# Altium schematic symbol library EM_Power.SchLib: 26 symbols
Pins are listed as number, name and electrical type; pins without a type are passive.

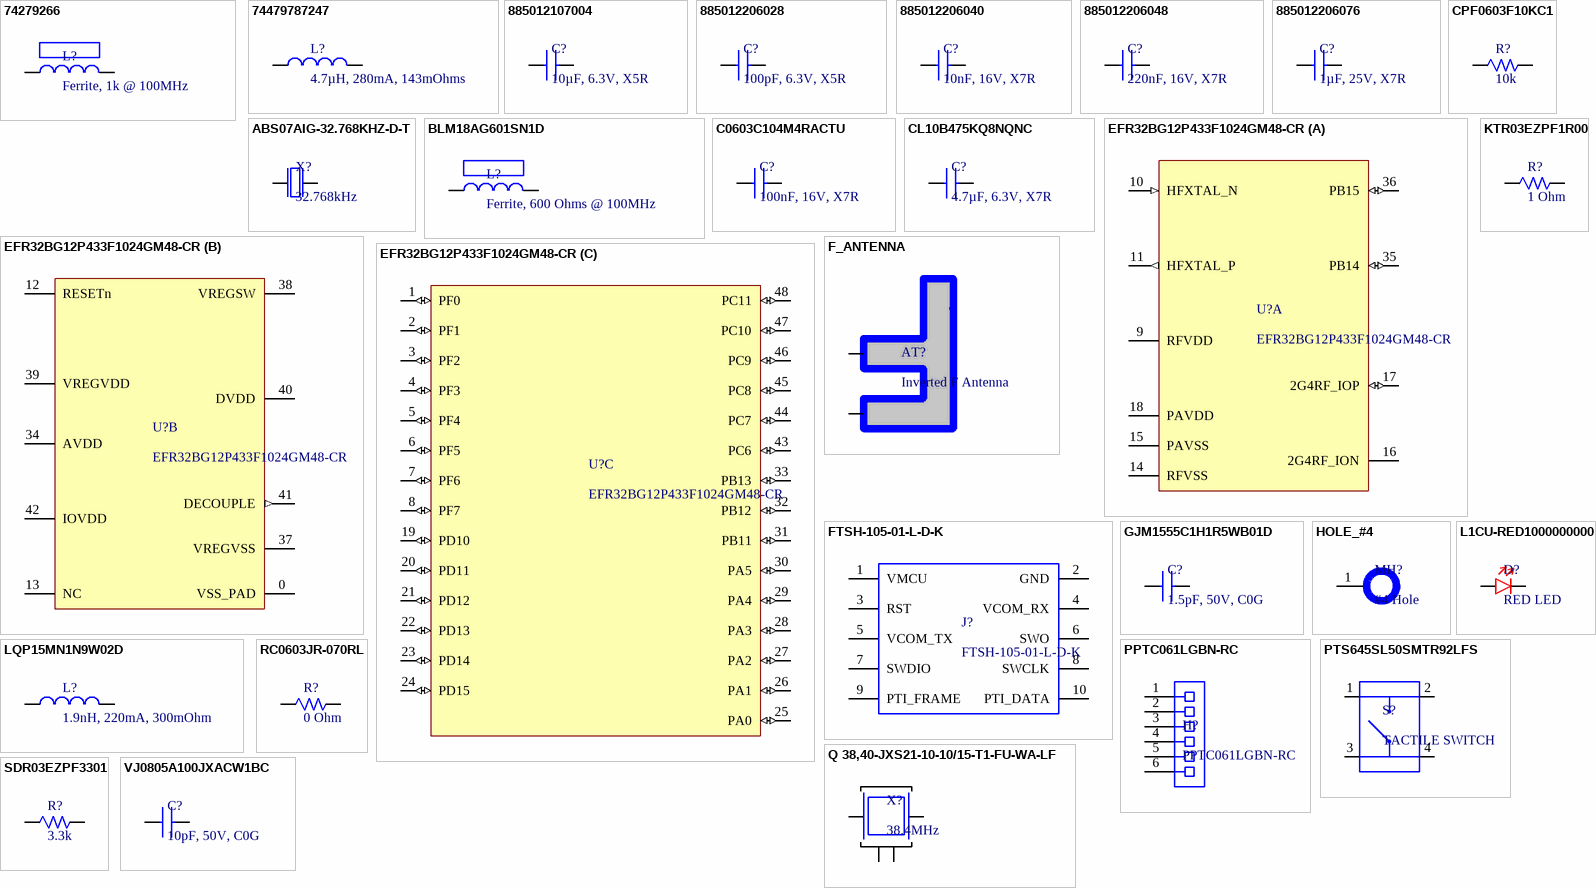
[diagram p0: symbols 74279266 to VJ0805A100JXACW1BC]

## 74279266
designator L?, comment Ferrite, 1k @ 100MHz
Ferrite Bead, 0603 [1608 Metric], 1 kohm, 200 mA, WE-CBF Series, 0.6 ohm, ± 25%; Manufacturer: Wurth Electronics; Manufacturer Part Number: 74279266; Impedance: 1kR; Max DC Current: 200mA; DC Resistance (DCR): 600mR; Inductance: 1.8nH; Shielding: Unshielded; Supplier 1: Digi-Key; RoHS: Yes; Category: Ferrite Beads and Chips; Stock 1: 123904; Pricing 1: 1=0.17000, 50=0.16800, 100=0.15500, 500=0.14800, 1000=0.14100, 2000=0.13400 (USD); Case/Package: SMD/SMT; Case Code (Metric): 1608; Case Code (Imperial): 0603; Core Material: Ferrite; Min Operating Temperature: -55°C; Max Operating Temperature: 125°C; Tolerance: 25%; Packaging: Tape and Reel; Termination: SMD/SMT; Test Frequency: 100MHz; Current Rating: 200mA; Length: 1.6mm; Height: 0.8mm; Width: 0.8mm; Depth: 0.8mm; Lead Free: Lead Free; REACH SVHC: Unknown; ComponentLink1URL: https://datasheet.ciiva.com/14634/0900766b801ef1d0-14634816.pdf?src-supplier=Allied+Electronics; ComponentLink1Description: https://datasheet.ciiva.com/14634/0900766b801ef1d0-14634816.pdf?src-supplier=Allied+Electronics; ComponentLink2URL: https://datasheet.ciiva.com/23763/74279266-23763009.pdf?src-supplier=Newark; ComponentLink2Description: https://datasheet.ciiva.com/23763/74279266-23763009.pdf?src-supplier=Newark; ComponentLink3URL: https://datasheet.ciiva.com/11799/0900766b801ef1d0-11799352.pdf?src-supplier=RSComponents; ComponentLink3Description: https://datasheet.ciiva.com/11799/0900766b801ef1d0-11799352.pdf?src-supplier=RSComponents; ComponentLink4URL: https://datasheet.ciiva.com/14971/74279266-14971192.pdf?src-supplier=Digi-Key; ComponentLink4Description: https://datasheet.ciiva.com/14971/74279266-14971192.pdf?src-supplier=Digi-Key; ComponentLink5URL: https://datasheet.ciiva.com/12395/74279266-221135-12395453.pdf?src-supplier=Mouser; ComponentLink5Description: https://datasheet.ciiva.com/12395/74279266-221135-12395453.pdf?src-supplier=Mouser; ComponentLink6URL: https://datasheet.ciiva.com/1466/1705901-1466509.pdf?src-supplier=Element14; ComponentLink6Description: https://datasheet.ciiva.com/1466/1705901-1466509.pdf?src-supplier=Element14; ComponentLink7URL: https://datasheet.ciiva.com/22711/1705901-22711422.pdf?src-supplier=Element14; ComponentLink7Description: https://datasheet.ciiva.com/22711/1705901-22711422.pdf?src-supplier=Element14; ComponentLink8URL: https://datasheet.ciiva.com/48698/001087059-da-01-ml-we-cbf-smd-ferrit-74279266-de-en-48698427.pdf?src-supplier=Conrad; ComponentLink8Description: https://datasheet.ciiva.com/48698/001087059-da-01-ml-we-cbf-smd-ferrit-74279266-de-en-48698427.pdf?src-supplier=Conrad; Supplier Part Number 1: 732-4484-1-ND
footprint Ferrite_Bead_1801x1 (FERRITE BEAD 1 KOHM 0603 1LN)
pins: 1, 2

## 74479787247
designator L?, comment 4.7µH, 280mA, 143mOhms
4.7uH, 1.25 A, 1008 [2520 Metric] WURTH ELEKTRONIK         74479787247             Surface Mount High Frequency Inductor, WE-PMI Series,; Manufacturer: Wurth Electronics; Core Material: Ferrite; Inductance Tolerance: 20%; Self Resonant Frequency: 40MHz; Q Factor: 20; Shielding: Shielded; Max DC Current: 1.25A; DC Resistance (DCR): 110mR; Test Frequency: 1MHz; Supplier 1: Digi-Key; Manufacturer Part Number: 74479787247; RoHS: Yes; Category: Fixed Inductors; Stock 1: 2270; Pricing 1: 1=1.10000, 10=1.07000, 50=0.96600, 100=0.93200, 500=0.86300, 1000=0.79400 (USD); Case/Package: SMD/SMT; Weight: 0.001129oz; Case Code (Metric): 2516; Case Code (Imperial): 1008; Min Operating Temperature: -40°C; Max Operating Temperature: 125°C; Packaging: Cut Tape; Inductance: 4.7uH; Termination: SMD/SMT; Package Quantity: 3000; Length: 2.5mm; Height: 1mm; Width: 2mm; REACH SVHC: Unknown; ComponentLink1URL: https://datasheet.ciiva.com/7354/1599851-7354771.pdf?src-supplier=Newark; ComponentLink1Description: https://datasheet.ciiva.com/7354/1599851-7354771.pdf?src-supplier=Newark; ComponentLink2URL: https://datasheet.ciiva.com/24213/74479787247-253805-24213913.pdf?src-supplier=Mouser; ComponentLink2Description: https://datasheet.ciiva.com/24213/74479787247-253805-24213913.pdf?src-supplier=Mouser; ComponentLink3URL: https://datasheet.ciiva.com/7754/1599851-7754726.pdf?src-supplier=Element14; ComponentLink3Description: https://datasheet.ciiva.com/7754/1599851-7754726.pdf?src-supplier=Element14; Supplier Part Number 1: 732-14079-1-ND
footprint IND_2228x1 (Shielded Multilayer Inductor 143mOhm Max 1008 (2520 Metric))
pins: 1, 2

## 885012107004
designator C?, comment 10µF, 6.3V, X5R
CAP CER 10UF 6.3V X5R 0805; Manufacturer: Wurth Electronics; Manufacturer Part Number: 885012107004; Tolerance: 20%; Supplier 1: Digi-Key; RoHS: Yes; Category: Ceramic Capacitors; Stock 1: 10674; Pricing 1: 1=0.19000, 10=0.17100, 100=0.15310, 500=0.13542, 1000=0.12500 (USD); Mount: Surface Mount; Case/Package: 0805; Case Code (Metric): 2012; Case Code (Imperial): 0805; Min Operating Temperature: -55°C; Max Operating Temperature: 85°C; Packaging: Tape and Reel; Capacitance: 10uF; Voltage Rating: 6.3V; Length: 0.079inch; Width: 0.049inch; Thickness: 0.053inch; ComponentLink1URL: https://katalog.we-online.de/pbs/datasheet/885012107004.pdf?src-supplier=Digi-Key; ComponentLink1Description: https://katalog.we-online.de/pbs/datasheet/885012107004.pdf?src-supplier=Digi-Key; Supplier Part Number 1: 732-7615-1-ND
footprint CAP_X5R_10UF (CAP CER 10UF 6.3V X5R 0805)
pins: 1, 2

## 885012206028
designator C?, comment 100pF, 6.3V, X5R
100 pF, 16 V, 0603 [1608 Metrické], ± 10%, X7R; Manufacturer: Wurth Electronics; Manufacturer Part Number: 885012206028; Voltage Rating: 16V; Supplier 1: Digi-Key; RoHS: Yes; Category: Ceramic Capacitors; Stock 1: 1513; Pricing 1: 1=0.10000, 10=0.02100, 100=0.01920, 500=0.01698 (USD); Mount: Surface Mount; Case/Package: 0603; Case Code (Imperial): 0603; Case Code (Metric): 1608; Min Operating Temperature: -55°C; Max Operating Temperature: 125°C; Tolerance: 10%; Packaging: Tape and Reel; Capacitance: 100pF; Length: 0.063inch; Width: 0.031inch; Thickness: 0.034inch; ComponentLink1URL: http://www.farnell.com/datasheets/2546812.pdf?src-supplier=Farnell; ComponentLink1Description: http://www.farnell.com/datasheets/2546812.pdf?src-supplier=Farnell; ComponentLink2URL: http://katalog.we-online.de/pbs/datasheet/885012206028.pdf?src-supplier=Digi-Key; ComponentLink2Description: http://katalog.we-online.de/pbs/datasheet/885012206028.pdf?src-supplier=Digi-Key; ComponentLink3URL: https://katalog.we-online.de/pbs/datasheet/885012206028.pdf?src-supplier=Digi-Key; ComponentLink3Description: https://katalog.we-online.de/pbs/datasheet/885012206028.pdf?src-supplier=Digi-Key; Supplier Part Number 1: 732-7947-1-ND
footprint CAP_X7R_100PF (CAP CER 100PF 16V X7R 0603)
pins: 1, 2

## 885012206040
designator C?, comment 10nF, 16V, X7R
CAP CER 10nF 16V X7R 0603; Manufacturer: Yageo; Manufacturer Part Number: CC0402MRX7R7BB103; Tolerance: 20%; RoHS: Yes; Category: Ceramic Capacitors; Stock 1: 33657; Pricing 1: 1=0.10000, 10=0.01800, 50=0.00960, 100=0.00780, 500=0.00558, 1000=0.00439, 2500=0.00399, 5000=0.00367 (USD); Mount: Surface Mount; Case/Package: 0402; Number of Pins: 2; Weight: 2.3E-05oz; Case Code (Metric): 1005; Case Code (Imperial): 0402; Min Operating Temperature: -55°C; Max Operating Temperature: 125°C; Packaging: Tape and Reel; Voltage Rating (DC): 16V; Capacitance: 10nF; Voltage Rating: 16V; Dielectric: X7R; Termination: SMD/SMT; Resistor Type: Ceramic; Length: 0.039inch; Width: 0.02inch; Thickness: 0.022inch; Depth: 0.5mm; REACH SVHC: No SVHC; Lead Free: Lead Free; Halogen Free: Halogen Free; ComponentLink1URL: https://datasheet.ciiva.com/13264/upy-gphc-x7r-6-3v-to-50v-8-12304-13264234.pdf?src-supplier=Mouser; ComponentLink1Description: https://datasheet.ciiva.com/13264/upy-gphc-x7r-6-3v-to-50v-8-12304-13264234.pdf?src-supplier=Mouser; Supplier 1: Digi-Key; Supplier Part Number 1: 732-7959-1-ND
footprint CAP_X7R_100PF (CAP CER 100PF 16V X7R 0603)
pins: 1, 2

## 885012206048
designator C?, comment 220nF, 16V, X7R
220nF/0.22UF, 16V, X7R, 10%, 0603, CERAMIC CAPACITOR ; Product Range:CC Series; Capacitance:0.22 F; Capacitance Tolerance: 10%; Dielectric Characteristic:X7R; Voltage Rating:16V; Ceramic Capacitor Case:0603 ; Packaging:Cut Tape;RoHS Compliant: Yes; Manufacturer: Yageo; Manufacturer Part Number: CC0805KRX7R7BB224; Insulation Resistance: 100GR; RoHS: Yes; Category: Ceramic Capacitors; Stock 1: 3851; Pricing 1: 1=0.19000, 10=0.13300, 50=0.07560, 100=0.06260, 500=0.04392, 1000=0.03636 (USD); Mount: Surface Mount; Case/Package: 0805; Number of Pins: 2; Dielectric Material: Ceramic; Case Code (Imperial): 0805; Case Code (Metric): 2012; Material: Ceramic; Min Operating Temperature: -55°C; Max Operating Temperature: 125°C; Capacitance: 220nF; Tolerance: 10%; Dielectric: X7R; Packaging: Tape and Reel; Voltage: 16V; Voltage Rating: 16V; Termination: SMD/SMT; Length: 2mm; Height: 0.85mm; Depth: 1.25mm; Width: 0.049inch; Thickness: 0.037inch; Radiation Hardening: No; REACH SVHC: Unknown; Lead Free: Lead Free; Halogen Free: Halogen Free; ComponentLink1URL: https://datasheet.ciiva.com/8034/1489800-8034021.pdf?src-supplier=Element14; ComponentLink1Description: https://datasheet.ciiva.com/8034/1489800-8034021.pdf?src-supplier=Element14; ComponentLink2URL: https://datasheet.ciiva.com/8034/1489800-8034022.pdf?src-supplier=Element14; ComponentLink2Description: https://datasheet.ciiva.com/8034/1489800-8034022.pdf?src-supplier=Element14; ComponentLink3URL: https://datasheet.ciiva.com/15189/getdatasheetpartid-315919-15189222.pdf?src-supplier=Verical; ComponentLink3Description: https://datasheet.ciiva.com/15189/getdatasheetpartid-315919-15189222.pdf?src-supplier=Verical; ComponentLink4URL: https://datasheet.ciiva.com/16624/upy-gphc-x7r-6-3v-to-50v-8-16624663.pdf?src-supplier=Avnet+Europe; ComponentLink4Description: https://datasheet.ciiva.com/16624/upy-gphc-x7r-6-3v-to-50v-8-16624663.pdf?src-supplier=Avnet+Europe; ComponentLink5URL: https://datasheet.ciiva.com/7978/1489800-7978206.pdf?src-supplier=Element14; ComponentLink5Description: https://datasheet.ciiva.com/7978/1489800-7978206.pdf?src-supplier=Element14; Supplier 1: Digi-Key; Supplier Part Number 1: 732-7967-1-ND
footprint CAP_X7R_100PF (CAP CER 100PF 16V X7R 0603)
pins: 1, 2

## 885012206076
designator C?, comment 1µF, 25V, X7R
CAP CER 1UF 25V X7R 0603; Manufacturer: Yageo; Manufacturer Part Number: CC1206MKX7R8BB105; Tolerance: 20%; RoHS: Yes; Category: Ceramic Capacitors; Stock 1: 18295; Pricing 1: 1=0.26000, 10=0.17700, 50=0.10640, 100=0.08980, 500=0.06146, 1000=0.05437 (USD); Mount: Surface Mount; Case/Package: 1206; Min Operating Temperature: -55°C; Max Operating Temperature: 125°C; Packaging: Tape and Reel; Capacitance: 1uF; Dielectric: X7R; Voltage Rating: 25V; Voltage Rating (DC): 25V; Length: 0.126inch; Width: 0.063inch; Thickness: 0.049inch; Depth: 1.6mm; Lead Free: Lead Free; Halogen Free: Halogen Free; ComponentLink1URL: https://datasheet.ciiva.com/13207/upy-gphc-x7r-6-3v-to-50v-8-12304-13207429.pdf?src-supplier=Mouser; ComponentLink1Description: https://datasheet.ciiva.com/13207/upy-gphc-x7r-6-3v-to-50v-8-12304-13207429.pdf?src-supplier=Mouser; Supplier 1: Digi-Key; Supplier Part Number 1: 732-7994-1-ND
footprint CAP_X7R_100PF (CAP CER 100PF 16V X7R 0603)
pins: 1, 2

## ABS07AIG-32.768KHZ-D-T
designator X?, comment 32.768kHz
Crystals 32.768kHz AECQ200 12.5pF -40C +85C; Manufacturer: Abracon; Manufacturer Part Number: ABS07AIG-32.768KHZ-D-T; ESR (Equivalent Series Resistance): 70kR; Frequency Tolerance: 20ppm; Supplier 1: Digi-Key; RoHS: Yes; Category: Crystals; Stock 1: 7575; Pricing 1: 1=1.05000, 10=0.92700, 50=0.86680, 100=0.76610, 500=0.72576, 1000=0.60480 (USD); Mount: Surface Mount; Case/Package: SMD/SMT; Min Operating Temperature: -40°C; Max Operating Temperature: 85°C; Packaging: Tape and Reel; Frequency: 32.768kHz; Load Capacitance: 12.5pF; Length: 0.126inch; Height: 0.035inch; Width: 0.059inch; Ratings: AEC-Q200; ComponentLink1URL: http://www.mouser.com/ds/2/3/ABS07AIG-783567.pdf?src-supplier=Mouser; ComponentLink1Description: http://www.mouser.com/ds/2/3/ABS07AIG-783567.pdf?src-supplier=Mouser; ComponentLink2URL: http://www.abracon.com/AIGcrystals/ABS07AIG.pdf?src-supplier=Digi-Key; ComponentLink2Description: http://www.abracon.com/AIGcrystals/ABS07AIG.pdf?src-supplier=Digi-Key; ComponentLink3URL: https://abracon.com/Support/flyer/AutoGrade-AIG-Crystals.pdf?src-supplier=Digi-Key; ComponentLink3Description: https://abracon.com/Support/flyer/AutoGrade-AIG-Crystals.pdf?src-supplier=Digi-Key; Supplier Part Number 1: 535-13356-1-ND
footprint XTAL320X150X90
pins: 1, 2

## BLM18AG601SN1D
designator L?, comment Ferrite, 600 Ohms @ 100MHz
BLM18AG601SN1D - Ferrite Bead, 0603 / 1608, 600 ohm, 500 mA, Série BLM18A, 0.38 ohm, ± 25%; Manufacturer: Murata; Material: Steel,Ferrite; Impedance: 600R; Current Rating: 500mA; DC Resistance (DCR): 380mR; Shielding: Unshielded; Number of Circuits: 1; Supplier 1: Digi-Key; Manufacturer Part Number: BLM18AG601SN1D; RoHS: Yes; Category: Inductors; Stock 1: 294956; Pricing 1: 1=0.10000, 10=0.07200, 25=0.06560, 50=0.05900, 100=0.04320, 250=0.03144, 500=0.02882, 1000=0.02489 (USD); Case/Package: 0603; Number of Pins: 2; Weight: 7.1E-05oz; Core Material: Ferrite; Case Code (Metric): 1608; Case Code (Imperial): 0603; Min Operating Temperature: -55°C; Max Operating Temperature: 125°C; Tolerance: 25%; Package Quantity: 1; Packaging: Tape and Reel; Termination: SMD/SMT; Max DC Current: 500mA; Max Current Rating: 500mA; Number of Lines: 1; Test Frequency: 100MHz; DC Current: 500mA; Frequency: 100MHz; Length: 1.6mm; Height: 0.8mm; Width: 0.8mm; Depth: 0.8mm; Radiation Hardening: No; REACH SVHC: No SVHC; Military Standard: Not; Lead Free: Lead Free; ComponentLink1URL: https://datasheet.ciiva.com/19460/1844766-19460213.pdf?src-supplier=Jameco; ComponentLink1Description: https://datasheet.ciiva.com/19460/1844766-19460213.pdf?src-supplier=Jameco; ComponentLink2URL: https://datasheet.ciiva.com/29347/442309-da-01-en-chip-drossel-0603-600r-500ma-1-6x0-8mm-29347900.pdf?src-supplier=Conrad; ComponentLink2Description: https://datasheet.ciiva.com/29347/442309-da-01-en-chip-drossel-0603-600r-500ma-1-6x0-8mm-29347900.pdf?src-supplier=Conrad; ComponentLink3URL: https://datasheet.ciiva.com/41449/001172228-da-01-en-drossel-0603-600r-1-6x0-8mm-4000st-41449517.pdf?src-supplier=Conrad; ComponentLink3Description: https://datasheet.ciiva.com/41449/001172228-da-01-en-drossel-0603-600r-1-6x0-8mm-4000st-41449517.pdf?src-supplier=Conrad; ComponentLink4URL: https://datasheet.ciiva.com/1012/l0110s0100blm18a-1012017.pdf?src-supplier=Digi-Key; ComponentLink4Description: https://datasheet.ciiva.com/1012/l0110s0100blm18a-1012017.pdf?src-supplier=Digi-Key; ComponentLink5URL: https://datasheet.ciiva.com/1012/l0110s0100blm18a-1012018.pdf?src-supplier=Digi-Key; ComponentLink5Description: https://datasheet.ciiva.com/1012/l0110s0100blm18a-1012018.pdf?src-supplier=Digi-Key; ComponentLink6URL: https://datasheet.ciiva.com/1012/l0110s0100blm18a-1012019.pdf?src-supplier=Digi-Key; ComponentLink6Description: https://datasheet.ciiva.com/1012/l0110s0100blm18a-1012019.pdf?src-supplier=Digi-Key; ComponentLink7URL: https://datasheet.ciiva.com/1466/1756147-1466933.pdf?src-supplier=Element14; ComponentLink7Description: https://datasheet.ciiva.com/1466/1756147-1466933.pdf?src-supplier=Element14; ComponentLink8URL: https://datasheet.ciiva.com/1466/1756147-1466934.pdf?src-supplier=Element14; ComponentLink8Description: https://datasheet.ciiva.com/1466/1756147-1466934.pdf?src-supplier=Element14; ComponentLink9URL: https://datasheet.ciiva.com/16210/l0110s0100blm18a-16210006.pdf?src-supplier=Future+Electronics; ComponentLink9Description: https://datasheet.ciiva.com/16210/l0110s0100blm18a-16210006.pdf?src-supplier=Future+Electronics; ComponentLink10URL: https://datasheet.ciiva.com/3081/l0110s0100blm18a-3081613.pdf?src-supplier=Avnet; ComponentLink10Description: https://datasheet.ciiva.com/3081/l0110s0100blm18a-3081613.pdf?src-supplier=Avnet; Supplier Part Number 1: 490-1014-1-ND
footprint Ferrite_Bead_0603 (FERRITE BEAD 600 OHM 0603 1LN)
pins: 1, 2

## C0603C104M4RACTU
designator C?, comment 100nF, 16V, X7R
CAP 100NF 16V 0603; Manufacturer: Murata; Manufacturer Part Number: LLL215R71C104MA11L; Tolerance: 20%; RoHS: Yes; Category: Ceramic Capacitors; Stock 1: 4067; Pricing 1: 1=0.35000, 10=0.24500, 50=0.17160, 100=0.14700, 500=0.11026, 1000=0.09310 (USD); Mount: Surface Mount; Case/Package: 0508; Case Code (Imperial): 0508; Case Code (Metric): 1220; Min Operating Temperature: -55°C; Max Operating Temperature: 125°C; Dielectric: X7R; Capacitance: 100nF; Voltage Rating (DC): 16V; Packaging: Tape and Reel; Voltage Rating: 16V; Package Quantity: 1; Termination: SMD/SMT; Voltage: 16V; Length: 1.25mm; Height: 0.5mm; Depth: 2mm; Width: 2mm; Thickness: 0.02inch; Radiation Hardening: No; Lead Free: Lead Free; ComponentLink1URL: https://datasheet.ciiva.com/17455/product-17455569.pdf?src-supplier=Avnet+Europe; ComponentLink1Description: https://datasheet.ciiva.com/17455/product-17455569.pdf?src-supplier=Avnet+Europe; ComponentLink2URL: https://datasheet.ciiva.com/11786/0900766b807a1cab-11786990.pdf?src-supplier=RSComponents; ComponentLink2Description: https://datasheet.ciiva.com/11786/0900766b807a1cab-11786990.pdf?src-supplier=RSComponents; ComponentLink3URL: https://datasheet.ciiva.com/139/partnumbering-e-01-139020.pdf?src-supplier=Digi-Key; ComponentLink3Description: https://datasheet.ciiva.com/139/partnumbering-e-01-139020.pdf?src-supplier=Digi-Key; ComponentLink4URL: https://datasheet.ciiva.com/139/partnumbering-e-01-139021.pdf?src-supplier=Digi-Key; ComponentLink4Description: https://datasheet.ciiva.com/139/partnumbering-e-01-139021.pdf?src-supplier=Digi-Key; ComponentLink5URL: https://datasheet.ciiva.com/139/partnumbering-e-01-139022.pdf?src-supplier=Digi-Key; ComponentLink5Description: https://datasheet.ciiva.com/139/partnumbering-e-01-139022.pdf?src-supplier=Digi-Key; Supplier 1: Digi-Key; Supplier Part Number 1: 399-1099-1-ND
footprint CAP_X7R_100NF (CAP CER 0.1UF 16V X7R 0603)
pins: 1, 2

## CL10B475KQ8NQNC
designator C?, comment 4.7µF, 6.3V, X7R
4.7uF, 6.3 V, 0603 [1608 Metric], 10%, X7R, CL Series Ceramic Capacitor,; Manufacturer: Samsung; Manufacturer Part Number: CL10B475KQ8NQNC; Supplier 1: Digi-Key; RoHS: Yes; Category: Ceramic Capacitors; Stock 1: 1537367; Pricing 1: 1=0.17000, 10=0.11800, 50=0.06720, 100=0.05560, 500=0.03898, 1000=0.03227 (USD); Mount: Surface Mount; Case/Package: 0603; Case Code (Metric): 1608; Case Code (Imperial): 0603; Contact Plating: Tin; Min Operating Temperature: -55°C; Max Operating Temperature: 125°C; Capacitance: 4.7uF; Tolerance: 10%; Dielectric: X7R; Package Quantity: 1; Packaging: Tape and Reel; Voltage Rating: 6.3V; Termination: Wraparound; Length: 1.6mm; Height: 0.8mm; Width: 0.031inch; Thickness: 0.035inch; Depth: 0.8mm; Lead Free: Lead Free; ComponentLink1URL: https://datasheet.ciiva.com/25733/cl10b475kq8nqnc-25733762.pdf?src-supplier=Digi-Key; ComponentLink1Description: https://datasheet.ciiva.com/25733/cl10b475kq8nqnc-25733762.pdf?src-supplier=Digi-Key; Supplier Part Number 1: 1276-2087-1-ND
footprint CAP_X7R_4.7uF (CAP CER 4.7UF 6.3V X7R 0603)
pins: 1, 2

## CPF0603F10KC1
designator R?, comment 10k
10K Ohm 1% 0.063W(1/16W)  Res Thick Film 0603 100ppm/? SMD Automotive Paper T/R; Manufacturer: Vishay Dale; Manufacturer Part Number: CRCW040210K0FKTD; Resistance: 10kR; Power Rating: 63mW; Temperature Coefficient: 100ppm/°C; Voltage Rating: 50V; RoHS: Yes; Category: Chip SMD Resistors; Stock 1: 10758; Pricing 1: 1=0.12000, 10=0.10900, 100=0.04200, 1000=0.01848, 2500=0.01596, 5000=0.01428 (USD); Mount: Surface Mount; Case/Package: 0402; Number of Pins: 2; Weight: 2.3E-05oz; Contact Plating: Tin,Lead; Case Code (Metric): 1005; Case Code (Imperial): 0402; Min Operating Temperature: -55°C; Max Operating Temperature: 155°C; Tolerance: 1%; Number of Terminations: 2; Max Power Dissipation: 63mW; Features: Automotive AEC-Q200; Packaging: Tape and Reel; Voltage Rating (DC): 50V; Package Quantity: 10000; Resistor Type: Thick Film; Length: 1mm; Height: 0.016inch; Depth: 0.5mm; Width: 0.02inch; Radiation Hardening: No; Lead Free: Contains Lead; Military Standard: Not; REACH SVHC: Unknown; ComponentLink1URL: https://datasheet.ciiva.com/15160/getdatasheetpartid-104182-15160013.pdf?src-supplier=Verical; ComponentLink1Description: https://datasheet.ciiva.com/15160/getdatasheetpartid-104182-15160013.pdf?src-supplier=Verical; ComponentLink2URL: https://datasheet.ciiva.com/2563/dcrcw-2563018.pdf?src-supplier=Digi-Key; ComponentLink2Description: https://datasheet.ciiva.com/2563/dcrcw-2563018.pdf?src-supplier=Digi-Key; Supplier 1: Digi-Key; Supplier Part Number 1: A102203CT-ND
footprint RES_0603_10k (RES SMD 10K OHM 1% 1/16W 0603)
pins: 1, 2

## EFR32BG12P433F1024GM48-CR
designator U?
Blue Gecko EFR32BG13; Manufacturer: Silicon Labs; Supplier 1: Digi-Key; Manufacturer Part Number: EFR32BG12P433F1024GM48-CR; RoHS: No; Stock 1: 4670; Pricing 1: 1=11.65000, 25=9.59720, 100=8.68300, 1000=6.39800 (USD); Supplier Part Number 1: 336-6197-1-ND
footprint QFN50P700X700X90_HS-49N (QFN, 48-Leads, Body 7.00x7.00mm, Pitch 0.50mm, Thermal Pad 4.70x4.70mm, IPC Medium Density)
part A pins: 9 RFVDD (power) "Radio power supply", 10 HFXTAL_N (in) "High Frequency Crystal input pin.", 11 HFXTAL_P (out) "High Frequency Crystal output pin.", 14 RFVSS (power) "Radio Ground", 15 PAVSS (power) ""Power Amplifier (PA) voltage regulator / VSS"", 16 2G4RF_ION ""2.4 GHz Differential RF input/output, / negative path. This pin should be externally / grounded."", 17 2G4RF_IOP (io) ""2.4 GHz Differential RF input/output, / positive path."", 18 PAVDD (power) ""Power Amplifier (PA) voltage regulator / VDD input"", 35 PB14 (io) "GPIO", 36 PB15 (io) "GPIO"
part B pins: 0 VSS_PAD (power) "Ground", 12 RESETn ""Reset input, active low. This pin is internally pulled up to AVDD. To apply an external reset source to this pin, it is required to only drive this pin low during reset, and let the internal pull-up ensure / that reset is released."", 13 NC (power) "No Connect.", 34 AVDD (power) "Analog power supply.", 37 VREGVSS (power) "Voltage regulator VSS", 38 VREGSW (power) "DCDC regulator switching node", 39 VREGVDD (power) "Voltage regulator VDD input", 40 DVDD (power) "Digital power supply.", 41 DECOUPLE (out) ""Decouple output for on-chip voltage / regulator. An external decoupling capacitor / is required at this pin. This pin / should not be used to power any external / circuits."", 42 IOVDD (power) "Digital IO power supply."
part C pins: 1 PF0 (io) "GPIO (5V)", 2 PF1 (io) "GPIO (5V)", 3 PF2 (io) "GPIO (5V)", 4 PF3 (io) "GPIO (5V)", 5 PF4 (io) "GPIO (5V)", 6 PF5 (io) "GPIO (5V)", 7 PF6 (io) "GPIO (5V)", 8 PF7 (io) "GPIO (5V)", 19 PD10 (io) "GPIO (5V)", 20 PD11 (io) "GPIO (5V)", 21 PD12 (io) "GPIO (5V)", 22 PD13 (io) "GPIO", 23 PD14 (io) "GPIO", 24 PD15 (io) "GPIO", 25 PA0 (io) "GPIO", 26 PA1 (io) "GPIO", 27 PA2 (io) "GPIO", 28 PA3 (io) "GPIO", 29 PA4 (io) "GPIO", 30 PA5 (io) "GPIO (5V)", 31 PB11 (io) "GPIO", 32 PB12 (io) "GPIO", 33 PB13 (io) "GPIO", 43 PC6 (io) "GPIO (5V)", 44 PC7 (io) "GPIO (5V)", 45 PC8 (io) "GPIO (5V)", 46 PC9 (io) "GPIO (5V)", 47 PC10 (io) "GPIO (5V)", 48 PC11 (io) "GPIO (5V)"

## F_ANTENNA
designator AT?, comment Inverted F Antenna  (net tie, no BOM)
footprint F-Antenna
pins: 1 GND, 2 FEED

## FTSH-105-01-L-D-K
designator J?
10-pin Mini Simplicity Connector, 1.27 mm, 10 Contacts, Header, FTSH Series, Through Hole, 2 Rows - Board-To-Board Connector, 1.27 mm, 10 Contacts, Header, FTSH Series, Through Hole, 2 Rows; Manufacturer: Samtec; Number of Contacts: 10; Gender: Male; Connector Type: Male Pin; Pitch: 1.27mm; Row Spacing: 0.05inch; Supplier 1: Digi-Key; Manufacturer Part Number: FTSH-105-01-L-D-K; RoHS: Yes; Category: Headers and Wire Housings; Stock 1: 2511; Pricing 1: 1=2.73000, 10=2.61600, 100=2.18000, 500=1.85300, 1000=1.58050, 5000=1.41700 (USD); Mount: Through Hole; Contact Plating: Gold; Housing Material: Polymer; Housing Color: Black; Contact Material: Bronze; Color: Black; Min Operating Temperature: -55°C; Max Operating Temperature: 125°C; Termination: Solder; Number of Rows: 2; Packaging: Rail/Tube; Number of Positions: 10; Orientation: Straight; Package Quantity: 1; Length: 6.35mm; Contact Mating Length: 0.12inch; Depth: 3.43mm; Radiation Hardening: No; ComponentLink1URL: https://datasheet.ciiva.com/739/ftsh-1xx-xx-xxx-d-xx-mkt-739003.pdf?src-supplier=Digi-Key; ComponentLink1Description: https://datasheet.ciiva.com/739/ftsh-1xx-xx-xxx-d-xx-mkt-739003.pdf?src-supplier=Digi-Key; Supplier Part Number 1: SAM8798-ND
footprint SAMTEC_FTSH-105-01-L-D-K
pins: 1 VMCU "Target Advanced Energy Monitor Voltage Net", 2 GND "Target Ground", 3 RST "Target Reset (Active Low)", 4 VCOM_RX "Target Pass-through UART/Virtual COM Port Receive", 5 VCOM_TX "Target Pass-through UART/Virtual COM Port Transmit", 6 SWO "Target Serial Wire Output", 7 SWDIO "Target Serial Wire Data Input/Output", 8 SWCLK "Target Serial Wire Clock", 9 PTI_FRAME "Target Packet Trace Interface Frame Signal", 10 PTI_DATA "Target Packet Trace Interface Data Signal"

## GJM1555C1H1R5WB01D
designator C?, comment 1.5pF, 50V, C0G
Cap Ceramic 1.5pF 50V C0G 0.05pF SMD 0402 125C Paper T/R; Manufacturer: Murata; Manufacturer Part Number: GJM1555C1H1R5WB01D; Supplier 1: Digi-Key; RoHS: Yes; Category: Ceramic Capacitors; Stock 1: 83250; Pricing 1: 1=0.24000, 10=0.16200, 50=0.10800, 100=0.09180, 500=0.06480, 1000=0.05670, 2500=0.05400, 5000=0.04995 (USD); Mount: Surface Mount; Case/Package: 0402; Case Code (Imperial): 0402; Case Code (Metric): 1005; Min Operating Temperature: -55°C; Max Operating Temperature: 125°C; Packaging: Tape and Reel; Capacitance: 1.5pF; Voltage Rating: 50V; Voltage Rating (DC): 50V; Package Quantity: 10000; Dielectric: C0G; Termination: SMD/SMT; Length: 1mm; Height: 0.5mm; Width: 0.02inch; Thickness: 0.022inch; Depth: 0.5mm; Radiation Hardening: No; Lead Free: Lead Free; ComponentLink1URL: https://datasheet.ciiva.com/18183/getdatasheetpartid-312921-18183825.pdf?src-supplier=Verical; ComponentLink1Description: https://datasheet.ciiva.com/18183/getdatasheetpartid-312921-18183825.pdf?src-supplier=Verical; Supplier Part Number 1: 490-11199-1-ND
footprint CAP_0402_1.5pF (CAP CER 1.5PF 50V C0G/NP0 0402)
pins: 1, 2

## HOLE_#4
designator MH?, comment #4 Hole  (no BOM)
footprint HOLE_#4
pins: 1

## KTR03EZPF1R00
designator R?, comment 1 Ohm
RES SMD 1 OHM 1% 1/10W 0603; Manufacturer: Vishay; Manufacturer Part Number: CRCW04021R00FNED; Resistance: 1R; Power Rating: 63mW; Voltage Rating: 50V; Temperature Coefficient: 200ppm/°C; RoHS: Yes; Category: Chip SMD Resistors; Stock 1: 17185; Pricing 1: 1=0.10000, 10=0.05000, 100=0.02040, 1000=0.00914, 2500=0.00794, 5000=0.00656 (USD); Mount: Surface Mount; Case/Package: 0402; Number of Pins: 2; Weight: 2.3E-05oz; Case Code (Metric): 1005; Case Code (Imperial): 0402; Contact Plating: Tin; Min Operating Temperature: -55°C; Max Operating Temperature: 155°C; Tolerance: 1%; Packaging: Tape and Reel; Package Quantity: 10000; Resistor Type: Thick Film; Number of Terminations: 2; Termination: SMD/SMT; Max Power Dissipation: 63mW; Voltage Rating (DC): 50V; Features: Automotive AEC-Q200; Length: 1mm; Height: 0.016inch; Width: 0.02inch; Depth: 0.5mm; Radiation Hardening: No; REACH SVHC: Unknown; Military Standard: Not; Lead Free: Lead Free; ComponentLink1URL: https://datasheet.ciiva.com/6027/1697337-6027861.pdf?src-supplier=Farnell; ComponentLink1Description: https://datasheet.ciiva.com/6027/1697337-6027861.pdf?src-supplier=Farnell; ComponentLink2URL: https://datasheet.ciiva.com/2560/dcrcwe3-2560102.pdf?src-supplier=Digi-Key; ComponentLink2Description: https://datasheet.ciiva.com/2560/dcrcwe3-2560102.pdf?src-supplier=Digi-Key; ComponentLink3URL: https://datasheet.ciiva.com/3256/dcrcwe3-3256200.pdf?src-supplier=Avnet; ComponentLink3Description: https://datasheet.ciiva.com/3256/dcrcwe3-3256200.pdf?src-supplier=Avnet; ComponentLink4URL: https://datasheet.ciiva.com/5552/dcrcwe3-109170-5552232.pdf?src-supplier=Mouser; ComponentLink4Description: https://datasheet.ciiva.com/5552/dcrcwe3-109170-5552232.pdf?src-supplier=Mouser; ComponentLink5URL: https://datasheet.ciiva.com/16436/dcrcwe3-16436173.pdf?src-supplier=Future+Electronics; ComponentLink5Description: https://datasheet.ciiva.com/16436/dcrcwe3-16436173.pdf?src-supplier=Future+Electronics; ComponentLink6URL: https://datasheet.ciiva.com/7841/125364-7841807.pdf?src-supplier=Element14; ComponentLink6Description: https://datasheet.ciiva.com/7841/125364-7841807.pdf?src-supplier=Element14; ComponentLink7URL: https://datasheet.ciiva.com/2560/dcrcwe3-2560101.pdf?src-supplier=Digi-Key; ComponentLink7Description: https://datasheet.ciiva.com/2560/dcrcwe3-2560101.pdf?src-supplier=Digi-Key; ComponentLink8URL: https://datasheet.ciiva.com/2560/dcrcwe3-2560103.pdf?src-supplier=Digi-Key; ComponentLink8Description: https://datasheet.ciiva.com/2560/dcrcwe3-2560103.pdf?src-supplier=Digi-Key; ComponentLink9URL: https://datasheet.ciiva.com/3256/dcrcwe3-3256199.pdf?src-supplier=Avnet; ComponentLink9Description: https://datasheet.ciiva.com/3256/dcrcwe3-3256199.pdf?src-supplier=Avnet; Supplier 1: Digi-Key; Supplier Part Number 1: RHM1.00AYCT-ND
footprint RES_0603_10k (RES SMD 10K OHM 1% 1/16W 0603)
pins: 1, 2

## L1CU-RED1000000000
designator D?, comment RED LED
LED LUXEON CZ RED SMD; Manufacturer: Wurth Electronics; Manufacturer Part Number: 150060GS75000; Color: Green; Wavelength: 520nm; Viewing Angle: 140°; Lens Style: Clear,Rectangular; Luminous Intensity: 430mcd; Forward Current: 30mA; Forward Voltage: 3.2V; Test Current: 20mA; RoHS: Yes; Category: LEDs; Stock 1: 94535; Pricing 1: 1=0.14000, 50=0.13300, 100=0.11400, 500=0.09900 (USD); Mount: Surface Mount; Case/Package: 0603; Case Code (Metric): 1608; Case Code (Imperial): 0603; Min Operating Temperature: -40°C; Max Operating Temperature: 85°C; Package Quantity: 4000; Packaging: Tape and Reel; Dominant Wavelength: 520nm; Length: 1.6mm; Height: 0.7mm; Width: 0.8mm; REACH SVHC: Unknown; Lead Free: Lead Free; ComponentLink1URL: https://datasheet.ciiva.com/29562/150060gs75000-29562868.pdf?src-supplier=Digi-Key; ComponentLink1Description: https://datasheet.ciiva.com/29562/150060gs75000-29562868.pdf?src-supplier=Digi-Key; ComponentLink2URL: https://datasheet.ciiva.com/29279/759427-da-01-en-chipled-0603-w-kl-gruen-150060gs75000-29279201.pdf?src-supplier=Conrad; ComponentLink2Description: https://datasheet.ciiva.com/29279/759427-da-01-en-chipled-0603-w-kl-gruen-150060gs75000-29279201.pdf?src-supplier=Conrad; ComponentLink3URL: https://datasheet.ciiva.com/29562/150060gs75000-29562870.pdf?src-supplier=Digi-Key; ComponentLink3Description: https://datasheet.ciiva.com/29562/150060gs75000-29562870.pdf?src-supplier=Digi-Key; ComponentLink4URL: https://datasheet.ciiva.com/29562/150060gs75000-29562869.pdf?src-supplier=Digi-Key; ComponentLink4Description: https://datasheet.ciiva.com/29562/150060gs75000-29562869.pdf?src-supplier=Digi-Key; Supplier 1: Digi-Key; Supplier Part Number 1: 1416-2040-1-ND
footprint LED_0603_GRN_WL-SMCW (SODFL, 2-Leads, Body 0.80x1.80mm, IPC Medium Density)
pins: 1, 2

## LQP15MN1N9W02D
designator L?, comment 1.9nH, 220mA, 300mOhm
Inductor 1.9nH 500MHz 13Q-Factor 220mA 300mOhm DCR 0402 Paper T/R; Manufacturer: Murata; Manufacturer Part Number: LQP15MN1N9W02D; Core Material: Ferrite; Resistance: 300mR; Self Resonant Frequency: 6GHz; Q Factor: 13; Shielding: Unshielded; Supplier 1: Digi-Key; RoHS: Yes; Category: Fixed Inductors; Stock 1: 38797; Pricing 1: 1=0.19000, 10=0.17100, 25=0.15240, 50=0.12960, 100=0.11430, 250=0.10476, 500=0.09526, 1000=0.08001, 2500=0.06858 (USD); Mount: Surface Mount; Case/Package: 0402; Case Code (Imperial): 0402; Case Code (Metric): 1005; Min Operating Temperature: -40°C; Max Operating Temperature: 85°C; Package Quantity: 10000; Packaging: Tape and Reel; Inductance: 1.9nH; Max DC Current: 220mA; DC Resistance (DCR): 300mR; Termination: SMD/SMT; Resistor Type: Thin Film; Test Frequency: 500MHz; Current Rating: 220mA; Length: 1mm; Height: 0.35mm; Width: 0.5mm; Height - Seated (Max): 0.018inch; Depth: 0.6mm; Radiation Hardening: No; REACH SVHC: No SVHC; ComponentLink1URL: https://datasheet.ciiva.com/30490/0900766b81256025-30490364.pdf?src-supplier=RSComponents; ComponentLink1Description: https://datasheet.ciiva.com/30490/0900766b81256025-30490364.pdf?src-supplier=RSComponents; ComponentLink2URL: https://datasheet.ciiva.com/8507/l0075s0084lqp15m-8507198.pdf?src-supplier=Avnet; ComponentLink2Description: https://datasheet.ciiva.com/8507/l0075s0084lqp15m-8507198.pdf?src-supplier=Avnet; Supplier Part Number 1: 490-11739-1-ND
footprint INDC1005X04N_1.9NH (Chip Inductor, 2-Leads, Body 1.00x0.50mm, IPC Medium Density)
pins: 1, 2

## PPTC061LGBN-RC
designator H?
Conn Socket Strip SKT 6 POS 2.54mm Solder RA SMD Automotive Tube; Manufacturer: Samtec; Manufacturer Part Number: SSM-106-L-SH; Number of Contacts: 6; Contact Resistance: 10mR; Max Voltage Rating (AC): 450V; Max Current Rating: 6.9A; Gender: Receptacle; Connector Type: Receptacle,Socket; RoHS: Yes; Category: Headers and Wire Housings; Stock 1: 228; Pricing 1: 1=2.05000, 10=1.79000, 25=1.67000, 100=1.63000, 250=1.50000, 500=1.26000 (USD); Contact Plating: Gold; Contact Material: Bronze; Color: Black; Housing Color: Black; Housing Material: Polymer; Min Operating Temperature: -55°C; Max Operating Temperature: 125°C; Number of Rows: 1; Termination: Solder; Packaging: Rail/Tube; Orientation: Horizontal; Current Rating: 6.9A; Number of Positions: 6; Voltage Rating: 450V; Length: 15.24mm; Pitch: 2.54mm; Depth: 8.13mm; Radiation Hardening: No; Lead Free: Lead Free; REACH SVHC: No SVHC; ComponentLink1URL: https://datasheet.ciiva.com/25617/0900766b81159465-25617416.pdf?src-supplier=RSComponents; ComponentLink1Description: https://datasheet.ciiva.com/25617/0900766b81159465-25617416.pdf?src-supplier=RSComponents; ComponentLink2URL: https://datasheet.ciiva.com/746/ssm-1xx-xxx-xx-xx-xx-x-xx-xx-mkt-746688.pdf?src-supplier=Digi-Key; ComponentLink2Description: https://datasheet.ciiva.com/746/ssm-1xx-xxx-xx-xx-xx-x-xx-xx-mkt-746688.pdf?src-supplier=Digi-Key; Supplier 1: Digi-Key; Supplier Part Number 1: S5442-ND
footprint SAMTEC-SSQ-106-02-X-S-RA
pins: 1 VCC, 2 GND, 3 TXD, 4 RXD, 5 BL, 6 RST

## PTS645SL50SMTR92LFS
designator S?, comment TACTILE SWITCH
TACTILE SWITCH, SPST, 0.05A, 12VDC; Manufacturer: ITT C&K; Manufacturer Part Number: PTS645SL50SMTR92LFS; Mechanical Life: 100000Cycles; Actuator Material: Nylon,Polyamide; Max Voltage Rating (DC): 12V; Operating Force: 1.27N; Actuator Type: Standard; Current Rating: 50mA; Switch Function: Off-Mom; Illumination Type: Non-Illuminated; Supplier 1: Digi-Key; RoHS: Yes; Category: Tactile Switches; Stock 1: 59621; Pricing 1: 1=0.25000, 10=0.24200, 25=0.22960, 100=0.20780, 250=0.18944, 500=0.17610 (USD); Mount: Surface Mount; Contact Plating: Silver; Contact Material: Bronze; Color: Black; Min Operating Temperature: -20°C; Max Operating Temperature: 60°C; Packaging: Tape and Reel; Throw Configuration: SPST; Termination: Gull Wing; Voltage Rating (DC): 12V; Package Quantity: 1; Max Current Rating: 50mA; Orientation: Straight; Length: 6mm; Depth: 9mm; REACH SVHC: No SVHC; Lead Free: Lead Free; ComponentLink1URL: https://datasheet.ciiva.com/26927/getdatasheetpartid-760859-26927133.pdf?src-supplier=Verical; ComponentLink1Description: https://datasheet.ciiva.com/26927/getdatasheetpartid-760859-26927133.pdf?src-supplier=Verical; ComponentLink2URL: https://datasheet.ciiva.com/14920/pts645-14920742.pdf?src-supplier=Digi-Key; ComponentLink2Description: https://datasheet.ciiva.com/14920/pts645-14920742.pdf?src-supplier=Digi-Key; ComponentLink3URL: https://datasheet.ciiva.com/14920/pts645-14920743.pdf?src-supplier=Digi-Key; ComponentLink3Description: https://datasheet.ciiva.com/14920/pts645-14920743.pdf?src-supplier=Digi-Key; ComponentLink4URL: https://datasheet.ciiva.com/14920/pts645-14920744.pdf?src-supplier=Digi-Key; ComponentLink4Description: https://datasheet.ciiva.com/14920/pts645-14920744.pdf?src-supplier=Digi-Key; ComponentLink5URL: https://datasheet.ciiva.com/46429/1839862-46429337.pdf?src-supplier=Element14; ComponentLink5Description: https://datasheet.ciiva.com/46429/1839862-46429337.pdf?src-supplier=Element14; ComponentLink6URL: https://datasheet.ciiva.com/46429/1839862-46429338.pdf?src-supplier=Element14; ComponentLink6Description: https://datasheet.ciiva.com/46429/1839862-46429338.pdf?src-supplier=Element14; Supplier Part Number 1: CKN9088CT-ND
footprint SW_PTS645SK50SMTR92LFS
pins: 1, 2, 3, 4

## Q 38,40-JXS21-10-10/15-T1-FU-WA-LF
designator X?, comment 38.4MHz
±10ppm Crystal 10pF 4-SMD, No Lead; Manufacturer: Jauch; Manufacturer Part Number: Q 38,40-JXS21-10-10/15-T1-FU-WA-LF; Supplier 1: Digi-Key; RoHS: No; Stock 1: 4266; Pricing 1: 1=0.76000, 10=0.67600, 50=0.63220, 100=0.55860, 500=0.52920 (USD); Supplier Part Number 1: 1908-1209-1-ND
footprint OSCSC220P320X250X70-4N
pins: 1, 2, 3, 4

## RC0603JR-070RL
designator R?, comment 0 Ohm
Jumper, 0 ohm, 0603 [Metrisch 1608], Baureihe RC, 75 V, Dickschicht; Manufacturer: Yageo; Manufacturer Part Number: RC0603JR-070RL; Resistance: 0mR; Tolerance: 1%; Power Rating: 100mW; Voltage Rating (DC): 50V; Temperature Coefficient: 200ppm/°C; Supplier 1: Digi-Key; RoHS: Yes; Category: Chip SMD Resistors; Stock 1: 12794789; Pricing 1: 1=0.10000, 10=0.01700, 25=0.01240, 50=0.00960, 100=0.00700, 250=0.00536, 500=0.00428, 1000=0.00315 (USD); Case/Package: 0603; Number of Pins: 2; Contact Plating: Tin,Matte; Case Code (Imperial): 0603; Case Code (Metric): 1608; Min Operating Temperature: -55°C; Max Operating Temperature: 155°C; Resistor Type: Thick Film; Packaging: Tape and Reel; Termination: SMD/SMT; Package Quantity: 5000; Voltage Rating: 50V; Length: 1.6mm; Height: 0.45mm; Width: 0.8mm; Depth: 0.8mm; Radiation Hardening: No; REACH SVHC: No SVHC; Lead Free: Lead Free; Military Standard: Not; ComponentLink1URL: https://datasheet.ciiva.com/11808/pyu-r-int-6-11808700.pdf?src-supplier=RSComponents; ComponentLink1Description: https://datasheet.ciiva.com/11808/pyu-r-int-6-11808700.pdf?src-supplier=RSComponents; ComponentLink2URL: https://datasheet.ciiva.com/7746/1738695-7746421.pdf?src-supplier=Element14; ComponentLink2Description: https://datasheet.ciiva.com/7746/1738695-7746421.pdf?src-supplier=Element14; ComponentLink3URL: https://datasheet.ciiva.com/8883/pyu-rc0603-51-rohs-l-4-8883045.pdf?src-supplier=Avnet; ComponentLink3Description: https://datasheet.ciiva.com/8883/pyu-rc0603-51-rohs-l-4-8883045.pdf?src-supplier=Avnet; ComponentLink4URL: https://datasheet.ciiva.com/15189/getdatasheetpartid-329462-15189845.pdf?src-supplier=Verical; ComponentLink4Description: https://datasheet.ciiva.com/15189/getdatasheetpartid-329462-15189845.pdf?src-supplier=Verical; ComponentLink5URL: https://datasheet.ciiva.com/7746/1738695-7746422.pdf?src-supplier=Element14; ComponentLink5Description: https://datasheet.ciiva.com/7746/1738695-7746422.pdf?src-supplier=Element14; ComponentLink6URL: https://datasheet.ciiva.com/12555/rc0603-272842-12555254.pdf?src-supplier=Mouser; ComponentLink6Description: https://datasheet.ciiva.com/12555/rc0603-272842-12555254.pdf?src-supplier=Mouser; ComponentLink7URL: https://datasheet.ciiva.com/22747/443971-22747530.pdf?src-supplier=Element14; ComponentLink7Description: https://datasheet.ciiva.com/22747/443971-22747530.pdf?src-supplier=Element14; Supplier Part Number 1: 311-0.0GRCT-ND
footprint RES_0_0603 (RES SMD 0 OHM JUMPER 1/10W 0603)
pins: 1, 2

## SDR03EZPF3301
designator R?, comment 3.3k
RES SMD 3.3 KOHM 1% 0.3W 0603; Manufacturer: Yageo; Manufacturer Part Number: RC0201FR-07100RL; Resistance: 100R; Temperature Coefficient: 200ppm/°C; Power Rating: 50mW; Voltage Rating: 25V; RoHS: Yes; Category: Chip SMD Resistors; Stock 1: 274418; Pricing 1: 1=0.10000, 10=0.03700, 100=0.01500, 1000=0.00673, 2500=0.00584, 5000=0.00483 (USD); Case/Package: 0201; Contact Plating: Tin,Matte; Case Code (Metric): 0603; Case Code (Imperial): 0201; Min Operating Temperature: -55°C; Max Operating Temperature: 125°C; Tolerance: 1%; Resistor Type: Thick Film; Packaging: Tape and Reel; Package Quantity: 1; Max Power Dissipation: 50mW; Number of Terminations: 2; Termination: SMD/SMT; Features: Moisture Resistant; Length: 0.024inch; Height: 0.01inch; Width: 0.012inch; Radiation Hardening: No; REACH SVHC: Unknown; Lead Free: Lead Free; ComponentLink1URL: https://datasheet.ciiva.com/2560/pyu-r-int-thick-7-2560866.pdf?src-supplier=Digi-Key; ComponentLink1Description: https://datasheet.ciiva.com/2560/pyu-r-int-thick-7-2560866.pdf?src-supplier=Digi-Key; ComponentLink2URL: https://datasheet.ciiva.com/28395/pyu-rc0201-51-rohs-l-8-28395391.pdf?src-supplier=Avnet+Europe; ComponentLink2Description: https://datasheet.ciiva.com/28395/pyu-rc0201-51-rohs-l-8-28395391.pdf?src-supplier=Avnet+Europe; ComponentLink3URL: https://datasheet.ciiva.com/2560/pyu-r-int-thick-7-2560865.pdf?src-supplier=Digi-Key; ComponentLink3Description: https://datasheet.ciiva.com/2560/pyu-r-int-thick-7-2560865.pdf?src-supplier=Digi-Key; ComponentLink4URL: https://datasheet.ciiva.com/2560/pyu-r-int-thick-7-2560867.pdf?src-supplier=Digi-Key; ComponentLink4Description: https://datasheet.ciiva.com/2560/pyu-r-int-thick-7-2560867.pdf?src-supplier=Digi-Key; ComponentLink5URL: https://datasheet.ciiva.com/16855/pyu-rc0201-51-rohs-l-8-16855781.pdf?src-supplier=Avnet+Europe; ComponentLink5Description: https://datasheet.ciiva.com/16855/pyu-rc0201-51-rohs-l-8-16855781.pdf?src-supplier=Avnet+Europe; ComponentLink6URL: https://datasheet.ciiva.com/8887/pyu-rc0201-51-rohs-l-8-8887865.pdf?src-supplier=Avnet; ComponentLink6Description: https://datasheet.ciiva.com/8887/pyu-rc0201-51-rohs-l-8-8887865.pdf?src-supplier=Avnet; Supplier 1: Digi-Key; Supplier Part Number 1: 511-1715-1-ND
footprint RES_0603_3.3k (RES SMD 3.3 KOHM 1% 0.3W 0603)
pins: 1, 2

## VJ0805A100JXACW1BC
designator C?, comment 10pF, 50V, C0G
CERAMIC CAP 10PF 50V, C0G, 5%, 0805; Manufacturer: Vishay; Manufacturer Part Number: VJ0805A100JXACW1BC; Dielectric Material: Tantalum; Temperature Coefficient: 0ppm/°C; Supplier 1: Digi-Key; RoHS: Yes; Category: Ceramic Capacitors; Stock 1: 4065; Pricing 1: 1=0.20000, 10=0.14000, 50=0.07940, 100=0.06580, 500=0.04614, 1000=0.03819 (USD); Mount: Surface Mount; Case/Package: 0805; Number of Pins: 2; Case Code (Metric): 2012; Case Code (Imperial): 0805; Min Operating Temperature: -55°C; Max Operating Temperature: 125°C; Voltage Rating (DC): 50V; Tolerance: 5%; Packaging: Tape and Reel; Package Quantity: 4000; Capacitance: 10pF; Voltage Rating: 50V; Dielectric: C0G; Termination: SMD/SMT; Length: 2mm; Height: 1.45mm; Width: 0.049inch; Thickness: 0.03inch; Depth: 1.25mm; REACH SVHC: Unknown; Lead Free: Lead Free; ComponentLink1URL: https://datasheet.ciiva.com/8063/1760306-8063331.pdf?src-supplier=Element14; ComponentLink1Description: https://datasheet.ciiva.com/8063/1760306-8063331.pdf?src-supplier=Element14; ComponentLink2URL: https://datasheet.ciiva.com/176/vjw1bcbascomseries-176727.pdf?src-supplier=Digi-Key; ComponentLink2Description: https://datasheet.ciiva.com/176/vjw1bcbascomseries-176727.pdf?src-supplier=Digi-Key; ComponentLink3URL: https://datasheet.ciiva.com/11486/vjw1bcbascomseries-11486214.pdf?src-supplier=Avnet; ComponentLink3Description: https://datasheet.ciiva.com/11486/vjw1bcbascomseries-11486214.pdf?src-supplier=Avnet; ComponentLink4URL: https://datasheet.ciiva.com/16201/vjw1bcbascomseries-16201004.pdf?src-supplier=Future+Electronics; ComponentLink4Description: https://datasheet.ciiva.com/16201/vjw1bcbascomseries-16201004.pdf?src-supplier=Future+Electronics; Supplier Part Number 1: 720-1625-1-ND
footprint CAP_0805_10PF (CAP CER 10PF 50V C0G/NP0 0805)
pins: 1, 2